# Altium integrated library Linear Technology Power Management uModule Regulators.IntLib: 166 symbols (part 61 of 67)
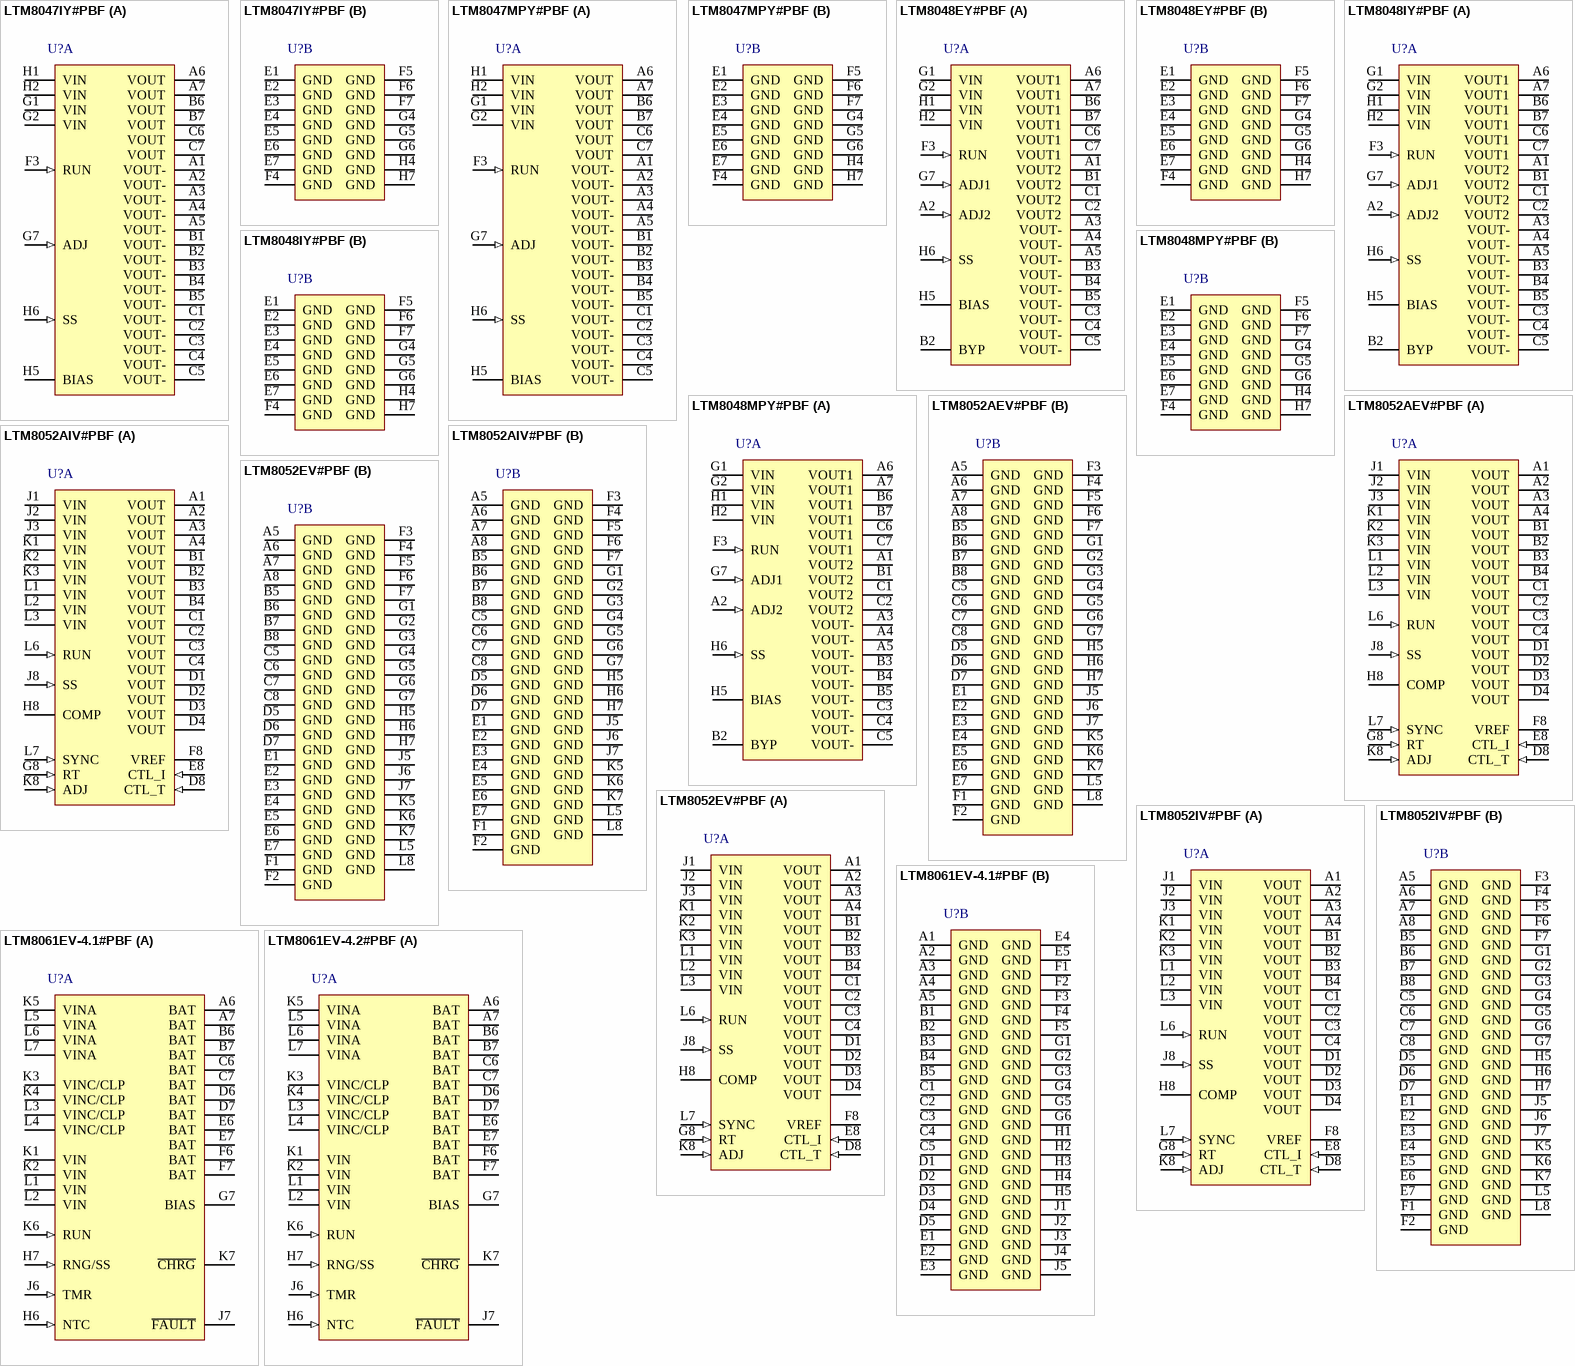
[diagram p87: symbols LTM8047IY#PBF to LTM8061EV-4.2#PBF]

## LTM8047IY#PBF
designator U?
3.1 VIN to 32 VIN Isolated uModule DC/DC Converter, 45-pin BGA, -40 to 125 degC, Pb-Free, Tray; Manufacturer: Linear Technology; PartNumber: LTM8047IY#PBF; Extended Temp: E, I, MP; Ishutdown(uA): 1; Isupply(mA): 0.85; Output Current(A): 0.44; Synchronous: no; Topology: Buck; Vin Max(V): 32; Vin Min(V): 3.1; Vout Max(V): 12; Vout Min(V): 2.5; PackageVersion: Rev. A, 01/2013; PackageReference: BGA-45; PackageDescription: 45-Ball BGA, Body 11.25 x 9 mm, Pitch 1.27 mm; Supplier 1: Digi-Key; Supplier Part Number 1: LTM8047IY#PBF-ND; Supplier 2: Farnell; Supplier Part Number 2: 2068088; Supplier 3: Newark; Supplier Part Number 3: 78T3673; Number of Outputs: 1; Packing: Tray; RoHS: TRUE; Tracking: no; Mounting Technology: Surface Mount; Code_JEDEC: MS-028; ComponentLink1Description: Manufacturer URL; ComponentLink1URL: http://www.linear.com/; ComponentLink2Description: Datasheet; ComponentLink2URL: http://cds.linear.com/docs/en/datasheet/8047f.pdf; ComponentLink3Description: Package Specification; ComponentLink3URL: http://cds.linear.com/docs/en/packaging/05081869_A_bga45.pdf
footprint LT-BGA-45-11250X9000X4920 (BGA, 45-Balls, Body 11.25x9mm, Pitch 1.27mm)
part A pins: A1 VOUT- (power) "VOUT- is the return for VOUT. VOUT and VOUT- comprise the isolated output of the LTM8047. In most applications, the bulk of the heat flow out of the LTM8047 is through the GND and VOUT- pads, so the printed circuit design (See Datasheet)", A2 VOUT- (power) "VOUT- is the return for VOUT. VOUT and VOUT- comprise the isolated output of the LTM8047. In most applications, the bulk of the heat flow out of the LTM8047 is through the GND and VOUT- pads, so the printed circuit design (See Datasheet)", A3 VOUT- (power) "VOUT- is the return for VOUT. VOUT and VOUT- comprise the isolated output of the LTM8047. In most applications, the bulk of the heat flow out of the LTM8047 is through the GND and VOUT- pads, so the printed circuit design (See Datasheet)", A4 VOUT- (power) "VOUT- is the return for VOUT. VOUT and VOUT- comprise the isolated output of the LTM8047. In most applications, the bulk of the heat flow out of the LTM8047 is through the GND and VOUT- pads, so the printed circuit design (See Datasheet)", A5 VOUT- (power) "VOUT- is the return for VOUT. VOUT and VOUT- comprise the isolated output of the LTM8047. In most applications, the bulk of the heat flow out of the LTM8047 is through the GND and VOUT- pads, so the printed circuit design (See Datasheet)", A6 VOUT (power) "VOUT and VOUT- comprise the isolated output of the LTM8047 flyback stage. Apply an external capacitor between VOUT and VOUT-. Do not allow VOUT- to exceed VOUT.", A7 VOUT (power) "VOUT and VOUT- comprise the isolated output of the LTM8047 flyback stage. Apply an external capacitor between VOUT and VOUT-. Do not allow VOUT- to exceed VOUT.", B1 VOUT- (power) "VOUT- is the return for VOUT. VOUT and VOUT- comprise the isolated output of the LTM8047. In most applications, the bulk of the heat flow out of the LTM8047 is through the GND and VOUT- pads, so the printed circuit design (See Datasheet)", B2 VOUT- (power) "VOUT- is the return for VOUT. VOUT and VOUT- comprise the isolated output of the LTM8047. In most applications, the bulk of the heat flow out of the LTM8047 is through the GND and VOUT- pads, so the printed circuit design (See Datasheet)", B3 VOUT- (power) "VOUT- is the return for VOUT. VOUT and VOUT- comprise the isolated output of the LTM8047. In most applications, the bulk of the heat flow out of the LTM8047 is through the GND and VOUT- pads, so the printed circuit design (See Datasheet)", B4 VOUT- (power) "VOUT- is the return for VOUT. VOUT and VOUT- comprise the isolated output of the LTM8047. In most applications, the bulk of the heat flow out of the LTM8047 is through the GND and VOUT- pads, so the printed circuit design (See Datasheet)", B5 VOUT- (power) "VOUT- is the return for VOUT. VOUT and VOUT- comprise the isolated output of the LTM8047. In most applications, the bulk of the heat flow out of the LTM8047 is through the GND and VOUT- pads, so the printed circuit design (See Datasheet)", B6 VOUT (power) "VOUT and VOUT- comprise the isolated output of the LTM8047 flyback stage. Apply an external capacitor between VOUT and VOUT-. Do not allow VOUT- to exceed VOUT.", B7 VOUT (power) "VOUT and VOUT- comprise the isolated output of the LTM8047 flyback stage. Apply an external capacitor between VOUT and VOUT-. Do not allow VOUT- to exceed VOUT.", C1 VOUT- (power) "VOUT- is the return for VOUT. VOUT and VOUT- comprise the isolated output of the LTM8047. In most applications, the bulk of the heat flow out of the LTM8047 is through the GND and VOUT- pads, so the printed circuit design (See Datasheet)", C2 VOUT- (power) "VOUT- is the return for VOUT. VOUT and VOUT- comprise the isolated output of the LTM8047. In most applications, the bulk of the heat flow out of the LTM8047 is through the GND and VOUT- pads, so the printed circuit design (See Datasheet)", C3 VOUT- (power) "VOUT- is the return for VOUT. VOUT and VOUT- comprise the isolated output of the LTM8047. In most applications, the bulk of the heat flow out of the LTM8047 is through the GND and VOUT- pads, so the printed circuit design (See Datasheet)", C4 VOUT- (power) "VOUT- is the return for VOUT. VOUT and VOUT- comprise the isolated output of the LTM8047. In most applications, the bulk of the heat flow out of the LTM8047 is through the GND and VOUT- pads, so the printed circuit design (See Datasheet)", C5 VOUT- (power) "VOUT- is the return for VOUT. VOUT and VOUT- comprise the isolated output of the LTM8047. In most applications, the bulk of the heat flow out of the LTM8047 is through the GND and VOUT- pads, so the printed circuit design (See Datasheet)", C6 VOUT (power) "VOUT and VOUT- comprise the isolated output of the LTM8047 flyback stage. Apply an external capacitor between VOUT and VOUT-. Do not allow VOUT- to exceed VOUT.", C7 VOUT (power) "VOUT and VOUT- comprise the isolated output of the LTM8047 flyback stage. Apply an external capacitor between VOUT and VOUT-. Do not allow VOUT- to exceed VOUT.", F3 RUN (in) "A resistive divider connected to VIN and this pin programs the minimum voltage at which the LTM8047 will operate. Below 1.24V, the LTM8047 does not deliver power to the secondary. Above 1.24V, power will be delivered to the (See Datasheet)", G1 VIN (power) "VIN supplies current to the LTM8047’s internal regulator and to the integrated power switch. These pins must be locally bypassed with an external, low ESR capacitor.", G2 VIN (power) "VIN supplies current to the LTM8047’s internal regulator and to the integrated power switch. These pins must be locally bypassed with an external, low ESR capacitor.", G7 ADJ (in) "Apply a resistor from this pin to GND to set the output voltage, using the recommended value given in Table 1.", H1 VIN (power) "VIN supplies current to the LTM8047’s internal regulator and to the integrated power switch. These pins must be locally bypassed with an external, low ESR capacitor.", H2 VIN (power) "VIN supplies current to the LTM8047’s internal regulator and to the integrated power switch. These pins must be locally bypassed with an external, low ESR capacitor.", H5 BIAS (power) "This pin supplies the power necessary to operate the LTM8047. It must be locally bypassed with a low ESR capacitor of at least 4.7uF. Do not allow this pin voltage to rise above VIN.", H6 SS (in) "Place a soft-start capacitor here to limit inrush current and the output voltage ramp rate. Do not allow a negative voltage (relative to GND) on this pin."
part B pins: E1 GND (power) "This is the primary side local ground of the LTM8047 primary. In most applications, the bulk of the heat flow out of the LTM8047 is through the GND and VOUT- pads, so the printed circuit design has a large impact on the (See Datasheet)", E2 GND (power) "This is the primary side local ground of the LTM8047 primary. In most applications, the bulk of the heat flow out of the LTM8047 is through the GND and VOUT- pads, so the printed circuit design has a large impact on the (See Datasheet)", E3 GND (power) "This is the primary side local ground of the LTM8047 primary. In most applications, the bulk of the heat flow out of the LTM8047 is through the GND and VOUT- pads, so the printed circuit design has a large impact on the (See Datasheet)", E4 GND (power) "This is the primary side local ground of the LTM8047 primary. In most applications, the bulk of the heat flow out of the LTM8047 is through the GND and VOUT- pads, so the printed circuit design has a large impact on the (See Datasheet)", E5 GND (power) "This is the primary side local ground of the LTM8047 primary. In most applications, the bulk of the heat flow out of the LTM8047 is through the GND and VOUT- pads, so the printed circuit design has a large impact on the (See Datasheet)", E6 GND (power) "This is the primary side local ground of the LTM8047 primary. In most applications, the bulk of the heat flow out of the LTM8047 is through the GND and VOUT- pads, so the printed circuit design has a large impact on the (See Datasheet)", E7 GND (power) "This is the primary side local ground of the LTM8047 primary. In most applications, the bulk of the heat flow out of the LTM8047 is through the GND and VOUT- pads, so the printed circuit design has a large impact on the (See Datasheet)", F4 GND (power) "This is the primary side local ground of the LTM8047 primary. In most applications, the bulk of the heat flow out of the LTM8047 is through the GND and VOUT- pads, so the printed circuit design has a large impact on the (See Datasheet)", F5 GND (power) "This is the primary side local ground of the LTM8047 primary. In most applications, the bulk of the heat flow out of the LTM8047 is through the GND and VOUT- pads, so the printed circuit design has a large impact on the (See Datasheet)", F6 GND (power) "This is the primary side local ground of the LTM8047 primary. In most applications, the bulk of the heat flow out of the LTM8047 is through the GND and VOUT- pads, so the printed circuit design has a large impact on the (See Datasheet)", F7 GND (power) "This is the primary side local ground of the LTM8047 primary. In most applications, the bulk of the heat flow out of the LTM8047 is through the GND and VOUT- pads, so the printed circuit design has a large impact on the (See Datasheet)", G4 GND (power) "This is the primary side local ground of the LTM8047 primary. In most applications, the bulk of the heat flow out of the LTM8047 is through the GND and VOUT- pads, so the printed circuit design has a large impact on the (See Datasheet)", G5 GND (power) "This is the primary side local ground of the LTM8047 primary. In most applications, the bulk of the heat flow out of the LTM8047 is through the GND and VOUT- pads, so the printed circuit design has a large impact on the (See Datasheet)", G6 GND (power) "This is the primary side local ground of the LTM8047 primary. In most applications, the bulk of the heat flow out of the LTM8047 is through the GND and VOUT- pads, so the printed circuit design has a large impact on the (See Datasheet)", H4 GND (power) "This is the primary side local ground of the LTM8047 primary. In most applications, the bulk of the heat flow out of the LTM8047 is through the GND and VOUT- pads, so the printed circuit design has a large impact on the (See Datasheet)", H7 GND (power) "This is the primary side local ground of the LTM8047 primary. In most applications, the bulk of the heat flow out of the LTM8047 is through the GND and VOUT- pads, so the printed circuit design has a large impact on the (See Datasheet)"

## LTM8047MPY#PBF
designator U?
3.1 VIN to 32 VIN Isolated uModule DC/DC Converter, 45-pin BGA, -55 to 125 degC, Pb-Free, Tray; Manufacturer: Linear Technology; PartNumber: LTM8047MPY#PBF; Extended Temp: E, I, MP; Ishutdown(uA): 1; Isupply(mA): 0.85; Output Current(A): 0.44; Synchronous: no; Topology: Buck; Vin Max(V): 32; Vin Min(V): 3.1; Vout Max(V): 12; Vout Min(V): 2.5; PackageVersion: Rev. A, 01/2013; PackageReference: BGA-45; PackageDescription: 45-Ball BGA, Body 11.25 x 9 mm, Pitch 1.27 mm; Supplier 1: Digi-Key; Supplier Part Number 1: LTM8047MPY#PBF-ND; Supplier 2: Farnell; Supplier Part Number 2: 2068089; Supplier 3: Newark; Supplier Part Number 3: 78T3674; Number of Outputs: 1; Packing: Tray; RoHS: TRUE; Tracking: no; Mounting Technology: Surface Mount; Code_JEDEC: MS-028; ComponentLink1Description: Manufacturer URL; ComponentLink1URL: http://www.linear.com/; ComponentLink2Description: Datasheet; ComponentLink2URL: http://cds.linear.com/docs/en/datasheet/8047f.pdf; ComponentLink3Description: Package Specification; ComponentLink3URL: http://cds.linear.com/docs/en/packaging/05081869_A_bga45.pdf
footprint LT-BGA-45-11250X9000X4920 (BGA, 45-Balls, Body 11.25x9mm, Pitch 1.27mm)
part A pins: A1 VOUT- (power) "VOUT- is the return for VOUT. VOUT and VOUT- comprise the isolated output of the LTM8047. In most applications, the bulk of the heat flow out of the LTM8047 is through the GND and VOUT- pads, so the printed circuit design (See Datasheet)", A2 VOUT- (power) "VOUT- is the return for VOUT. VOUT and VOUT- comprise the isolated output of the LTM8047. In most applications, the bulk of the heat flow out of the LTM8047 is through the GND and VOUT- pads, so the printed circuit design (See Datasheet)", A3 VOUT- (power) "VOUT- is the return for VOUT. VOUT and VOUT- comprise the isolated output of the LTM8047. In most applications, the bulk of the heat flow out of the LTM8047 is through the GND and VOUT- pads, so the printed circuit design (See Datasheet)", A4 VOUT- (power) "VOUT- is the return for VOUT. VOUT and VOUT- comprise the isolated output of the LTM8047. In most applications, the bulk of the heat flow out of the LTM8047 is through the GND and VOUT- pads, so the printed circuit design (See Datasheet)", A5 VOUT- (power) "VOUT- is the return for VOUT. VOUT and VOUT- comprise the isolated output of the LTM8047. In most applications, the bulk of the heat flow out of the LTM8047 is through the GND and VOUT- pads, so the printed circuit design (See Datasheet)", A6 VOUT (power) "VOUT and VOUT- comprise the isolated output of the LTM8047 flyback stage. Apply an external capacitor between VOUT and VOUT-. Do not allow VOUT- to exceed VOUT.", A7 VOUT (power) "VOUT and VOUT- comprise the isolated output of the LTM8047 flyback stage. Apply an external capacitor between VOUT and VOUT-. Do not allow VOUT- to exceed VOUT.", B1 VOUT- (power) "VOUT- is the return for VOUT. VOUT and VOUT- comprise the isolated output of the LTM8047. In most applications, the bulk of the heat flow out of the LTM8047 is through the GND and VOUT- pads, so the printed circuit design (See Datasheet)", B2 VOUT- (power) "VOUT- is the return for VOUT. VOUT and VOUT- comprise the isolated output of the LTM8047. In most applications, the bulk of the heat flow out of the LTM8047 is through the GND and VOUT- pads, so the printed circuit design (See Datasheet)", B3 VOUT- (power) "VOUT- is the return for VOUT. VOUT and VOUT- comprise the isolated output of the LTM8047. In most applications, the bulk of the heat flow out of the LTM8047 is through the GND and VOUT- pads, so the printed circuit design (See Datasheet)", B4 VOUT- (power) "VOUT- is the return for VOUT. VOUT and VOUT- comprise the isolated output of the LTM8047. In most applications, the bulk of the heat flow out of the LTM8047 is through the GND and VOUT- pads, so the printed circuit design (See Datasheet)", B5 VOUT- (power) "VOUT- is the return for VOUT. VOUT and VOUT- comprise the isolated output of the LTM8047. In most applications, the bulk of the heat flow out of the LTM8047 is through the GND and VOUT- pads, so the printed circuit design (See Datasheet)", B6 VOUT (power) "VOUT and VOUT- comprise the isolated output of the LTM8047 flyback stage. Apply an external capacitor between VOUT and VOUT-. Do not allow VOUT- to exceed VOUT.", B7 VOUT (power) "VOUT and VOUT- comprise the isolated output of the LTM8047 flyback stage. Apply an external capacitor between VOUT and VOUT-. Do not allow VOUT- to exceed VOUT.", C1 VOUT- (power) "VOUT- is the return for VOUT. VOUT and VOUT- comprise the isolated output of the LTM8047. In most applications, the bulk of the heat flow out of the LTM8047 is through the GND and VOUT- pads, so the printed circuit design (See Datasheet)", C2 VOUT- (power) "VOUT- is the return for VOUT. VOUT and VOUT- comprise the isolated output of the LTM8047. In most applications, the bulk of the heat flow out of the LTM8047 is through the GND and VOUT- pads, so the printed circuit design (See Datasheet)", C3 VOUT- (power) "VOUT- is the return for VOUT. VOUT and VOUT- comprise the isolated output of the LTM8047. In most applications, the bulk of the heat flow out of the LTM8047 is through the GND and VOUT- pads, so the printed circuit design (See Datasheet)", C4 VOUT- (power) "VOUT- is the return for VOUT. VOUT and VOUT- comprise the isolated output of the LTM8047. In most applications, the bulk of the heat flow out of the LTM8047 is through the GND and VOUT- pads, so the printed circuit design (See Datasheet)", C5 VOUT- (power) "VOUT- is the return for VOUT. VOUT and VOUT- comprise the isolated output of the LTM8047. In most applications, the bulk of the heat flow out of the LTM8047 is through the GND and VOUT- pads, so the printed circuit design (See Datasheet)", C6 VOUT (power) "VOUT and VOUT- comprise the isolated output of the LTM8047 flyback stage. Apply an external capacitor between VOUT and VOUT-. Do not allow VOUT- to exceed VOUT.", C7 VOUT (power) "VOUT and VOUT- comprise the isolated output of the LTM8047 flyback stage. Apply an external capacitor between VOUT and VOUT-. Do not allow VOUT- to exceed VOUT.", F3 RUN (in) "A resistive divider connected to VIN and this pin programs the minimum voltage at which the LTM8047 will operate. Below 1.24V, the LTM8047 does not deliver power to the secondary. Above 1.24V, power will be delivered to the (See Datasheet)", G1 VIN (power) "VIN supplies current to the LTM8047’s internal regulator and to the integrated power switch. These pins must be locally bypassed with an external, low ESR capacitor.", G2 VIN (power) "VIN supplies current to the LTM8047’s internal regulator and to the integrated power switch. These pins must be locally bypassed with an external, low ESR capacitor.", G7 ADJ (in) "Apply a resistor from this pin to GND to set the output voltage, using the recommended value given in Table 1.", H1 VIN (power) "VIN supplies current to the LTM8047’s internal regulator and to the integrated power switch. These pins must be locally bypassed with an external, low ESR capacitor.", H2 VIN (power) "VIN supplies current to the LTM8047’s internal regulator and to the integrated power switch. These pins must be locally bypassed with an external, low ESR capacitor.", H5 BIAS (power) "This pin supplies the power necessary to operate the LTM8047. It must be locally bypassed with a low ESR capacitor of at least 4.7uF. Do not allow this pin voltage to rise above VIN.", H6 SS (in) "Place a soft-start capacitor here to limit inrush current and the output voltage ramp rate. Do not allow a negative voltage (relative to GND) on this pin."
part B pins: E1 GND (power) "This is the primary side local ground of the LTM8047 primary. In most applications, the bulk of the heat flow out of the LTM8047 is through the GND and VOUT- pads, so the printed circuit design has a large impact on the (See Datasheet)", E2 GND (power) "This is the primary side local ground of the LTM8047 primary. In most applications, the bulk of the heat flow out of the LTM8047 is through the GND and VOUT- pads, so the printed circuit design has a large impact on the (See Datasheet)", E3 GND (power) "This is the primary side local ground of the LTM8047 primary. In most applications, the bulk of the heat flow out of the LTM8047 is through the GND and VOUT- pads, so the printed circuit design has a large impact on the (See Datasheet)", E4 GND (power) "This is the primary side local ground of the LTM8047 primary. In most applications, the bulk of the heat flow out of the LTM8047 is through the GND and VOUT- pads, so the printed circuit design has a large impact on the (See Datasheet)", E5 GND (power) "This is the primary side local ground of the LTM8047 primary. In most applications, the bulk of the heat flow out of the LTM8047 is through the GND and VOUT- pads, so the printed circuit design has a large impact on the (See Datasheet)", E6 GND (power) "This is the primary side local ground of the LTM8047 primary. In most applications, the bulk of the heat flow out of the LTM8047 is through the GND and VOUT- pads, so the printed circuit design has a large impact on the (See Datasheet)", E7 GND (power) "This is the primary side local ground of the LTM8047 primary. In most applications, the bulk of the heat flow out of the LTM8047 is through the GND and VOUT- pads, so the printed circuit design has a large impact on the (See Datasheet)", F4 GND (power) "This is the primary side local ground of the LTM8047 primary. In most applications, the bulk of the heat flow out of the LTM8047 is through the GND and VOUT- pads, so the printed circuit design has a large impact on the (See Datasheet)", F5 GND (power) "This is the primary side local ground of the LTM8047 primary. In most applications, the bulk of the heat flow out of the LTM8047 is through the GND and VOUT- pads, so the printed circuit design has a large impact on the (See Datasheet)", F6 GND (power) "This is the primary side local ground of the LTM8047 primary. In most applications, the bulk of the heat flow out of the LTM8047 is through the GND and VOUT- pads, so the printed circuit design has a large impact on the (See Datasheet)", F7 GND (power) "This is the primary side local ground of the LTM8047 primary. In most applications, the bulk of the heat flow out of the LTM8047 is through the GND and VOUT- pads, so the printed circuit design has a large impact on the (See Datasheet)", G4 GND (power) "This is the primary side local ground of the LTM8047 primary. In most applications, the bulk of the heat flow out of the LTM8047 is through the GND and VOUT- pads, so the printed circuit design has a large impact on the (See Datasheet)", G5 GND (power) "This is the primary side local ground of the LTM8047 primary. In most applications, the bulk of the heat flow out of the LTM8047 is through the GND and VOUT- pads, so the printed circuit design has a large impact on the (See Datasheet)", G6 GND (power) "This is the primary side local ground of the LTM8047 primary. In most applications, the bulk of the heat flow out of the LTM8047 is through the GND and VOUT- pads, so the printed circuit design has a large impact on the (See Datasheet)", H4 GND (power) "This is the primary side local ground of the LTM8047 primary. In most applications, the bulk of the heat flow out of the LTM8047 is through the GND and VOUT- pads, so the printed circuit design has a large impact on the (See Datasheet)", H7 GND (power) "This is the primary side local ground of the LTM8047 primary. In most applications, the bulk of the heat flow out of the LTM8047 is through the GND and VOUT- pads, so the printed circuit design has a large impact on the (See Datasheet)"

## LTM8048EY#PBF
designator U?
3.1 VIN to 32 VIN Isolated uModule DC/DC Converter with LDO Post Regulator, 45-pin BGA, -40 to 125 degC, Pb-Free, Tray; Manufacturer: Linear Technology; PartNumber: LTM8048EY#PBF; Extended Temp: E, I, MP; Ishutdown(uA): 1; Isupply(mA): 0.85; Number of Outputs: 2; Output Current(A): 0.44; Synchronous: no; Topology: Buck, LDO; Vin Max(V): 32; Vin Min(V): 3.1; Vout Max(V): 13; Vout Min(V): 1.2; DatasheetVersion: Rev. D; PackageVersion: Rev. A, 01/2013; PackageReference: BGA-45; PackageDescription: 45-Ball BGA, Body 11.25 x 9 mm, Pitch 1.27 mm; Supplier 1: Digi-Key; Supplier Part Number 1: LTM8048EY#PBF-ND; Supplier 2: Farnell; Supplier Part Number 2: 2068090; Supplier 3: Newark; Supplier Part Number 3: 78T3675; Packing: Tray; RoHS: TRUE; Tracking: no; Mounting Technology: Surface Mount; Code_JEDEC: MS-028; ComponentLink1Description: Manufacturer URL; ComponentLink1URL: http://www.linear.com/; ComponentLink2Description: Datasheet; ComponentLink2URL: http://cds.linear.com/docs/en/datasheet/8048fd.pdf; ComponentLink3Description: Package Specification; ComponentLink3URL: http://cds.linear.com/docs/en/packaging/05081869_A_bga45.pdf
footprint LT-BGA-45-11250X9000X4920 (BGA, 45-Balls, Body 11.25x9mm, Pitch 1.27mm)
part A pins: A1 VOUT2 (power) "The output of the secondary side linear post regulator. Apply the load and output capacitor between VOUT2 and VOUT-. See the Applications Information section for more information on output capacitance and reverse output (See Datasheet)", A2 ADJ2 (in) "This is the input to the error amplifier of the secondary side LDO post regulator. This pin is internally clamped to +/-7V. The ADJ2 pin voltage is 1.22V referenced to VOUT- and the output voltage range is 1.22V to 12V. (See Datasheet)", A3 VOUT- (power) "VOUT- is the return for both VOUT1 and VOUT2. VOUT1 and VOUT- comprise the isolated output of the LTM8048. In most applications, the bulk of the heat flow out of the LTM8048 is through the GND and VOUT- pads, so the printed (See Datasheet)", A4 VOUT- (power) "VOUT- is the return for both VOUT1 and VOUT2. VOUT1 and VOUT- comprise the isolated output of the LTM8048. In most applications, the bulk of the heat flow out of the LTM8048 is through the GND and VOUT- pads, so the printed (See Datasheet)", A5 VOUT- (power) "VOUT- is the return for both VOUT1 and VOUT2. VOUT1 and VOUT- comprise the isolated output of the LTM8048. In most applications, the bulk of the heat flow out of the LTM8048 is through the GND and VOUT- pads, so the printed (See Datasheet)", A6 VOUT1 (power) "VOUT1 and VOUT- comprise the isolated output of the LTM8048 flyback stage. Apply an external capacitor between VOUT1 and VOUT-. Do not allow VOUT- to exceed VOUT1.", A7 VOUT1 (power) "VOUT1 and VOUT- comprise the isolated output of the LTM8048 flyback stage. Apply an external capacitor between VOUT1 and VOUT-. Do not allow VOUT- to exceed VOUT1.", B1 VOUT2 (power) "The output of the secondary side linear post regulator. Apply the load and output capacitor between VOUT2 and VOUT-. See the Applications Information section for more information on output capacitance and reverse output (See Datasheet)", B2 BYP "The BYP pin is used to bypass the reference of the LDO to achieve low noise performance from the linear post regulator. The BYP pin is clamped internally to +/-0.6V relative to VOUT-. A small capacitor from VOUT2 to this pin (See Datasheet)", B3 VOUT- (power) "VOUT- is the return for both VOUT1 and VOUT2. VOUT1 and VOUT- comprise the isolated output of the LTM8048. In most applications, the bulk of the heat flow out of the LTM8048 is through the GND and VOUT- pads, so the printed (See Datasheet)", B4 VOUT- (power) "VOUT- is the return for both VOUT1 and VOUT2. VOUT1 and VOUT- comprise the isolated output of the LTM8048. In most applications, the bulk of the heat flow out of the LTM8048 is through the GND and VOUT- pads, so the printed (See Datasheet)", B5 VOUT- (power) "VOUT- is the return for both VOUT1 and VOUT2. VOUT1 and VOUT- comprise the isolated output of the LTM8048. In most applications, the bulk of the heat flow out of the LTM8048 is through the GND and VOUT- pads, so the printed (See Datasheet)", B6 VOUT1 (power) "VOUT1 and VOUT- comprise the isolated output of the LTM8048 flyback stage. Apply an external capacitor between VOUT1 and VOUT-. Do not allow VOUT- to exceed VOUT1.", B7 VOUT1 (power) "VOUT1 and VOUT- comprise the isolated output of the LTM8048 flyback stage. Apply an external capacitor between VOUT1 and VOUT-. Do not allow VOUT- to exceed VOUT1.", C1 VOUT2 (power) "The output of the secondary side linear post regulator. Apply the load and output capacitor between VOUT2 and VOUT-. See the Applications Information section for more information on output capacitance and reverse output (See Datasheet)", C2 VOUT2 (power) "The output of the secondary side linear post regulator. Apply the load and output capacitor between VOUT2 and VOUT-. See the Applications Information section for more information on output capacitance and reverse output (See Datasheet)", C3 VOUT- (power) "VOUT- is the return for both VOUT1 and VOUT2. VOUT1 and VOUT- comprise the isolated output of the LTM8048. In most applications, the bulk of the heat flow out of the LTM8048 is through the GND and VOUT- pads, so the printed (See Datasheet)", C4 VOUT- (power) "VOUT- is the return for both VOUT1 and VOUT2. VOUT1 and VOUT- comprise the isolated output of the LTM8048. In most applications, the bulk of the heat flow out of the LTM8048 is through the GND and VOUT- pads, so the printed (See Datasheet)", C5 VOUT- (power) "VOUT- is the return for both VOUT1 and VOUT2. VOUT1 and VOUT- comprise the isolated output of the LTM8048. In most applications, the bulk of the heat flow out of the LTM8048 is through the GND and VOUT- pads, so the printed (See Datasheet)", C6 VOUT1 (power) "VOUT1 and VOUT- comprise the isolated output of the LTM8048 flyback stage. Apply an external capacitor between VOUT1 and VOUT-. Do not allow VOUT- to exceed VOUT1.", C7 VOUT1 (power) "VOUT1 and VOUT- comprise the isolated output of the LTM8048 flyback stage. Apply an external capacitor between VOUT1 and VOUT-. Do not allow VOUT- to exceed VOUT1.", F3 RUN (in) "A resistive divider connected to VIN and this pin programs the minimum voltage at which the LTM8048 will operate. Below 1.24V, the LTM8048 does not deliver power to the secondary. Above 1.24V, power will be delivered to the (See Datasheet)", G1 VIN (power) "VIN supplies current to the LTM8048’s internal regulator and to the integrated power switch. These pins must be locally bypassed with an external, low ESR capacitor.", G2 VIN (power) "VIN supplies current to the LTM8048’s internal regulator and to the integrated power switch. These pins must be locally bypassed with an external, low ESR capacitor.", G7 ADJ1 (in) "Apply a resistor from this pin to GND to set the output voltage VOUT1 relative to VOUT-, using the recommended value given in Table 1.", H1 VIN (power) "VIN supplies current to the LTM8048’s internal regulator and to the integrated power switch. These pins must be locally bypassed with an external, low ESR capacitor.", H2 VIN (power) "VIN supplies current to the LTM8048’s internal regulator and to the integrated power switch. These pins must be locally bypassed with an external, low ESR capacitor.", H5 BIAS (power) "This pin supplies the power necessary to operate the LTM8048. It must be locally bypassed with a low ESR capacitor of at least 4.7uF. Do not allow this pin voltage to rise above VIN.", H6 SS (in) "Place a soft-start capacitor here to limit inrush current and the output voltage ramp rate. Do not allow a negative voltage (relative to GND) on this pin."
part B pins: E1 GND (power) "This is the primary side local ground of the LTM8048 primary. In most applications, the bulk of the heat flow out of the LTM8048 is through the GND and VOUT- pads, so the printed circuit design has a large impact on the (See Datasheet)", E2 GND (power) "This is the primary side local ground of the LTM8048 primary. In most applications, the bulk of the heat flow out of the LTM8048 is through the GND and VOUT- pads, so the printed circuit design has a large impact on the (See Datasheet)", E3 GND (power) "This is the primary side local ground of the LTM8048 primary. In most applications, the bulk of the heat flow out of the LTM8048 is through the GND and VOUT- pads, so the printed circuit design has a large impact on the (See Datasheet)", E4 GND (power) "This is the primary side local ground of the LTM8048 primary. In most applications, the bulk of the heat flow out of the LTM8048 is through the GND and VOUT- pads, so the printed circuit design has a large impact on the (See Datasheet)", E5 GND (power) "This is the primary side local ground of the LTM8048 primary. In most applications, the bulk of the heat flow out of the LTM8048 is through the GND and VOUT- pads, so the printed circuit design has a large impact on the (See Datasheet)", E6 GND (power) "This is the primary side local ground of the LTM8048 primary. In most applications, the bulk of the heat flow out of the LTM8048 is through the GND and VOUT- pads, so the printed circuit design has a large impact on the (See Datasheet)", E7 GND (power) "This is the primary side local ground of the LTM8048 primary. In most applications, the bulk of the heat flow out of the LTM8048 is through the GND and VOUT- pads, so the printed circuit design has a large impact on the (See Datasheet)", F4 GND (power) "This is the primary side local ground of the LTM8048 primary. In most applications, the bulk of the heat flow out of the LTM8048 is through the GND and VOUT- pads, so the printed circuit design has a large impact on the (See Datasheet)", F5 GND (power) "This is the primary side local ground of the LTM8048 primary. In most applications, the bulk of the heat flow out of the LTM8048 is through the GND and VOUT- pads, so the printed circuit design has a large impact on the (See Datasheet)", F6 GND (power) "This is the primary side local ground of the LTM8048 primary. In most applications, the bulk of the heat flow out of the LTM8048 is through the GND and VOUT- pads, so the printed circuit design has a large impact on the (See Datasheet)", F7 GND (power) "This is the primary side local ground of the LTM8048 primary. In most applications, the bulk of the heat flow out of the LTM8048 is through the GND and VOUT- pads, so the printed circuit design has a large impact on the (See Datasheet)", G4 GND (power) "This is the primary side local ground of the LTM8048 primary. In most applications, the bulk of the heat flow out of the LTM8048 is through the GND and VOUT- pads, so the printed circuit design has a large impact on the (See Datasheet)", G5 GND (power) "This is the primary side local ground of the LTM8048 primary. In most applications, the bulk of the heat flow out of the LTM8048 is through the GND and VOUT- pads, so the printed circuit design has a large impact on the (See Datasheet)", G6 GND (power) "This is the primary side local ground of the LTM8048 primary. In most applications, the bulk of the heat flow out of the LTM8048 is through the GND and VOUT- pads, so the printed circuit design has a large impact on the (See Datasheet)", H4 GND (power) "This is the primary side local ground of the LTM8048 primary. In most applications, the bulk of the heat flow out of the LTM8048 is through the GND and VOUT- pads, so the printed circuit design has a large impact on the (See Datasheet)", H7 GND (power) "This is the primary side local ground of the LTM8048 primary. In most applications, the bulk of the heat flow out of the LTM8048 is through the GND and VOUT- pads, so the printed circuit design has a large impact on the (See Datasheet)"

## LTM8048IY#PBF
designator U?
3.1 VIN to 32 VIN Isolated uModule DC/DC Converter with LDO Post Regulator, 45-pin BGA, -40 to 125 degC, Pb-Free, Tray; Manufacturer: Linear Technology; PartNumber: LTM8048IY#PBF; Extended Temp: E, I, MP; Ishutdown(uA): 1; Isupply(mA): 0.85; Number of Outputs: 2; Output Current(A): 0.44; Synchronous: no; Topology: Buck, LDO; Vin Max(V): 32; Vin Min(V): 3.1; Vout Max(V): 13; Vout Min(V): 1.2; DatasheetVersion: Rev. D; PackageVersion: Rev. A, 01/2013; PackageReference: BGA-45; PackageDescription: 45-Ball BGA, Body 11.25 x 9 mm, Pitch 1.27 mm; Supplier 1: Digi-Key; Supplier Part Number 1: LTM8048IY#PBF-ND; Supplier 2: Farnell; Supplier Part Number 2: 2068091; Supplier 3: Newark; Supplier Part Number 3: 78T3676; Packing: Tray; RoHS: TRUE; Tracking: no; Mounting Technology: Surface Mount; Code_JEDEC: MS-028; ComponentLink1Description: Manufacturer URL; ComponentLink1URL: http://www.linear.com/; ComponentLink2Description: Datasheet; ComponentLink2URL: http://cds.linear.com/docs/en/datasheet/8048fd.pdf; ComponentLink3Description: Package Specification; ComponentLink3URL: http://cds.linear.com/docs/en/packaging/05081869_A_bga45.pdf
footprint LT-BGA-45-11250X9000X4920 (BGA, 45-Balls, Body 11.25x9mm, Pitch 1.27mm)
part A pins: A1 VOUT2 (power) "The output of the secondary side linear post regulator. Apply the load and output capacitor between VOUT2 and VOUT-. See the Applications Information section for more information on output capacitance and reverse output (See Datasheet)", A2 ADJ2 (in) "This is the input to the error amplifier of the secondary side LDO post regulator. This pin is internally clamped to +/-7V. The ADJ2 pin voltage is 1.22V referenced to VOUT- and the output voltage range is 1.22V to 12V. (See Datasheet)", A3 VOUT- (power) "VOUT- is the return for both VOUT1 and VOUT2. VOUT1 and VOUT- comprise the isolated output of the LTM8048. In most applications, the bulk of the heat flow out of the LTM8048 is through the GND and VOUT- pads, so the printed (See Datasheet)", A4 VOUT- (power) "VOUT- is the return for both VOUT1 and VOUT2. VOUT1 and VOUT- comprise the isolated output of the LTM8048. In most applications, the bulk of the heat flow out of the LTM8048 is through the GND and VOUT- pads, so the printed (See Datasheet)", A5 VOUT- (power) "VOUT- is the return for both VOUT1 and VOUT2. VOUT1 and VOUT- comprise the isolated output of the LTM8048. In most applications, the bulk of the heat flow out of the LTM8048 is through the GND and VOUT- pads, so the printed (See Datasheet)", A6 VOUT1 (power) "VOUT1 and VOUT- comprise the isolated output of the LTM8048 flyback stage. Apply an external capacitor between VOUT1 and VOUT-. Do not allow VOUT- to exceed VOUT1.", A7 VOUT1 (power) "VOUT1 and VOUT- comprise the isolated output of the LTM8048 flyback stage. Apply an external capacitor between VOUT1 and VOUT-. Do not allow VOUT- to exceed VOUT1.", B1 VOUT2 (power) "The output of the secondary side linear post regulator. Apply the load and output capacitor between VOUT2 and VOUT-. See the Applications Information section for more information on output capacitance and reverse output (See Datasheet)", B2 BYP "The BYP pin is used to bypass the reference of the LDO to achieve low noise performance from the linear post regulator. The BYP pin is clamped internally to +/-0.6V relative to VOUT-. A small capacitor from VOUT2 to this pin (See Datasheet)", B3 VOUT- (power) "VOUT- is the return for both VOUT1 and VOUT2. VOUT1 and VOUT- comprise the isolated output of the LTM8048. In most applications, the bulk of the heat flow out of the LTM8048 is through the GND and VOUT- pads, so the printed (See Datasheet)", B4 VOUT- (power) "VOUT- is the return for both VOUT1 and VOUT2. VOUT1 and VOUT- comprise the isolated output of the LTM8048. In most applications, the bulk of the heat flow out of the LTM8048 is through the GND and VOUT- pads, so the printed (See Datasheet)", B5 VOUT- (power) "VOUT- is the return for both VOUT1 and VOUT2. VOUT1 and VOUT- comprise the isolated output of the LTM8048. In most applications, the bulk of the heat flow out of the LTM8048 is through the GND and VOUT- pads, so the printed (See Datasheet)", B6 VOUT1 (power) "VOUT1 and VOUT- comprise the isolated output of the LTM8048 flyback stage. Apply an external capacitor between VOUT1 and VOUT-. Do not allow VOUT- to exceed VOUT1.", B7 VOUT1 (power) "VOUT1 and VOUT- comprise the isolated output of the LTM8048 flyback stage. Apply an external capacitor between VOUT1 and VOUT-. Do not allow VOUT- to exceed VOUT1.", C1 VOUT2 (power) "The output of the secondary side linear post regulator. Apply the load and output capacitor between VOUT2 and VOUT-. See the Applications Information section for more information on output capacitance and reverse output (See Datasheet)", C2 VOUT2 (power) "The output of the secondary side linear post regulator. Apply the load and output capacitor between VOUT2 and VOUT-. See the Applications Information section for more information on output capacitance and reverse output (See Datasheet)", C3 VOUT- (power) "VOUT- is the return for both VOUT1 and VOUT2. VOUT1 and VOUT- comprise the isolated output of the LTM8048. In most applications, the bulk of the heat flow out of the LTM8048 is through the GND and VOUT- pads, so the printed (See Datasheet)", C4 VOUT- (power) "VOUT- is the return for both VOUT1 and VOUT2. VOUT1 and VOUT- comprise the isolated output of the LTM8048. In most applications, the bulk of the heat flow out of the LTM8048 is through the GND and VOUT- pads, so the printed (See Datasheet)", C5 VOUT- (power) "VOUT- is the return for both VOUT1 and VOUT2. VOUT1 and VOUT- comprise the isolated output of the LTM8048. In most applications, the bulk of the heat flow out of the LTM8048 is through the GND and VOUT- pads, so the printed (See Datasheet)", C6 VOUT1 (power) "VOUT1 and VOUT- comprise the isolated output of the LTM8048 flyback stage. Apply an external capacitor between VOUT1 and VOUT-. Do not allow VOUT- to exceed VOUT1.", C7 VOUT1 (power) "VOUT1 and VOUT- comprise the isolated output of the LTM8048 flyback stage. Apply an external capacitor between VOUT1 and VOUT-. Do not allow VOUT- to exceed VOUT1.", F3 RUN (in) "A resistive divider connected to VIN and this pin programs the minimum voltage at which the LTM8048 will operate. Below 1.24V, the LTM8048 does not deliver power to the secondary. Above 1.24V, power will be delivered to the (See Datasheet)", G1 VIN (power) "VIN supplies current to the LTM8048’s internal regulator and to the integrated power switch. These pins must be locally bypassed with an external, low ESR capacitor.", G2 VIN (power) "VIN supplies current to the LTM8048’s internal regulator and to the integrated power switch. These pins must be locally bypassed with an external, low ESR capacitor.", G7 ADJ1 (in) "Apply a resistor from this pin to GND to set the output voltage VOUT1 relative to VOUT-, using the recommended value given in Table 1.", H1 VIN (power) "VIN supplies current to the LTM8048’s internal regulator and to the integrated power switch. These pins must be locally bypassed with an external, low ESR capacitor.", H2 VIN (power) "VIN supplies current to the LTM8048’s internal regulator and to the integrated power switch. These pins must be locally bypassed with an external, low ESR capacitor.", H5 BIAS (power) "This pin supplies the power necessary to operate the LTM8048. It must be locally bypassed with a low ESR capacitor of at least 4.7uF. Do not allow this pin voltage to rise above VIN.", H6 SS (in) "Place a soft-start capacitor here to limit inrush current and the output voltage ramp rate. Do not allow a negative voltage (relative to GND) on this pin."
part B pins: E1 GND (power) "This is the primary side local ground of the LTM8048 primary. In most applications, the bulk of the heat flow out of the LTM8048 is through the GND and VOUT- pads, so the printed circuit design has a large impact on the (See Datasheet)", E2 GND (power) "This is the primary side local ground of the LTM8048 primary. In most applications, the bulk of the heat flow out of the LTM8048 is through the GND and VOUT- pads, so the printed circuit design has a large impact on the (See Datasheet)", E3 GND (power) "This is the primary side local ground of the LTM8048 primary. In most applications, the bulk of the heat flow out of the LTM8048 is through the GND and VOUT- pads, so the printed circuit design has a large impact on the (See Datasheet)", E4 GND (power) "This is the primary side local ground of the LTM8048 primary. In most applications, the bulk of the heat flow out of the LTM8048 is through the GND and VOUT- pads, so the printed circuit design has a large impact on the (See Datasheet)", E5 GND (power) "This is the primary side local ground of the LTM8048 primary. In most applications, the bulk of the heat flow out of the LTM8048 is through the GND and VOUT- pads, so the printed circuit design has a large impact on the (See Datasheet)", E6 GND (power) "This is the primary side local ground of the LTM8048 primary. In most applications, the bulk of the heat flow out of the LTM8048 is through the GND and VOUT- pads, so the printed circuit design has a large impact on the (See Datasheet)", E7 GND (power) "This is the primary side local ground of the LTM8048 primary. In most applications, the bulk of the heat flow out of the LTM8048 is through the GND and VOUT- pads, so the printed circuit design has a large impact on the (See Datasheet)", F4 GND (power) "This is the primary side local ground of the LTM8048 primary. In most applications, the bulk of the heat flow out of the LTM8048 is through the GND and VOUT- pads, so the printed circuit design has a large impact on the (See Datasheet)", F5 GND (power) "This is the primary side local ground of the LTM8048 primary. In most applications, the bulk of the heat flow out of the LTM8048 is through the GND and VOUT- pads, so the printed circuit design has a large impact on the (See Datasheet)", F6 GND (power) "This is the primary side local ground of the LTM8048 primary. In most applications, the bulk of the heat flow out of the LTM8048 is through the GND and VOUT- pads, so the printed circuit design has a large impact on the (See Datasheet)", F7 GND (power) "This is the primary side local ground of the LTM8048 primary. In most applications, the bulk of the heat flow out of the LTM8048 is through the GND and VOUT- pads, so the printed circuit design has a large impact on the (See Datasheet)", G4 GND (power) "This is the primary side local ground of the LTM8048 primary. In most applications, the bulk of the heat flow out of the LTM8048 is through the GND and VOUT- pads, so the printed circuit design has a large impact on the (See Datasheet)", G5 GND (power) "This is the primary side local ground of the LTM8048 primary. In most applications, the bulk of the heat flow out of the LTM8048 is through the GND and VOUT- pads, so the printed circuit design has a large impact on the (See Datasheet)", G6 GND (power) "This is the primary side local ground of the LTM8048 primary. In most applications, the bulk of the heat flow out of the LTM8048 is through the GND and VOUT- pads, so the printed circuit design has a large impact on the (See Datasheet)", H4 GND (power) "This is the primary side local ground of the LTM8048 primary. In most applications, the bulk of the heat flow out of the LTM8048 is through the GND and VOUT- pads, so the printed circuit design has a large impact on the (See Datasheet)", H7 GND (power) "This is the primary side local ground of the LTM8048 primary. In most applications, the bulk of the heat flow out of the LTM8048 is through the GND and VOUT- pads, so the printed circuit design has a large impact on the (See Datasheet)"